# Altium schematic symbol library Digital Sensors.SchLib: 2 symbols
Pins are listed as number, name and electrical type; pins without a type are passive.

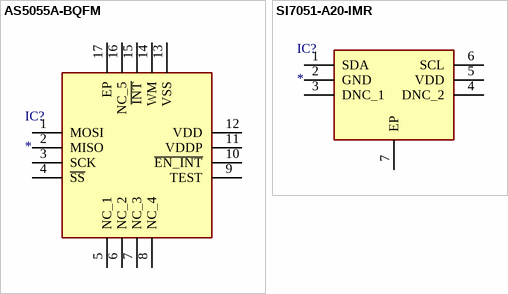
[diagram p0: symbols AS5055A-BQFM to SI7051-A20-IMR]

## AS5055A-BQFM
designator IC?
Integrated Circuit; Manufacturer_Name: ams OSRAM; Manufacturer_Part_Number: AS5055A-BQFM; Description: Board Mount Hall Effect / Magnetic Sensors 15B Rotary Position Sensor (Encoder); Datasheet Link: https://ams.com/documents/20143/36005/AS5055A_DS000304_2-00.pdf; Height: 1mm; Mouser Part Number: 985-AS5055A-BQFM; Mouser Price/Stock: https://www.mouser.co.uk/ProductDetail/ams/AS5055A-BQFM?qs=4zpkHad2bQAumCfQUINmhA%3D%3D; Arrow Part Number: AS5055A-BQFM; Arrow Price/Stock: https://www.arrow.com/en/products/as5055a-bqfm/ams-ag?region=nac
footprint QFN65P400X400X100-17N-D
pins: 1 MOSI, 2 MISO, 3 SCK, 4 ~{SS}, 5 NC_1, 6 NC_2, 7 NC_3, 8 NC_4, 9 TEST, 10 ~{EN_INT}, 11 VDDP, 12 VDD, 13 VSS, 14 WM, 15 ~{INT}, 16 NC_5, 17 EP

## SI7051-A20-IMR
designator IC?
Integrated Circuit; Manufacturer_Name: Silicon Labs; Manufacturer_Part_Number: SI7051-A20-IMR; Description: Board Mount Temperature Sensors Digital Temp Sensor High Accuracy; Datasheet Link: https://componentsearchengine.com/Datasheets/1/SI7051-A20-IMR.pdf; Height: 0.8mm; Mouser Part Number: 634-SI7051-A20-IMR; Mouser Price/Stock: https://www.mouser.co.uk/ProductDetail/Silicon-Labs/SI7051-A20-IMR?qs=j6MGy4L9yX2zSJWGGFfXqQ%3D%3D; Arrow Part Number: SI7051-A20-IMR; Arrow Price/Stock: https://www.arrow.com/en/products/si7051-a20-imr/silicon-labs
footprint SON100P300X300X80-7N-D
pins: 1 SDA, 2 GND, 3 DNC_1, 4 DNC_2, 5 VDD, 6 SCL, 7 EP